# Altium schematic symbol library SCH - MCU - STM32 - ST MICROELECTRONICS STM32F358RCTX LQFP64.SchLib: 1 symbol
Pins are listed as number, name and electrical type; pins without a type are passive.

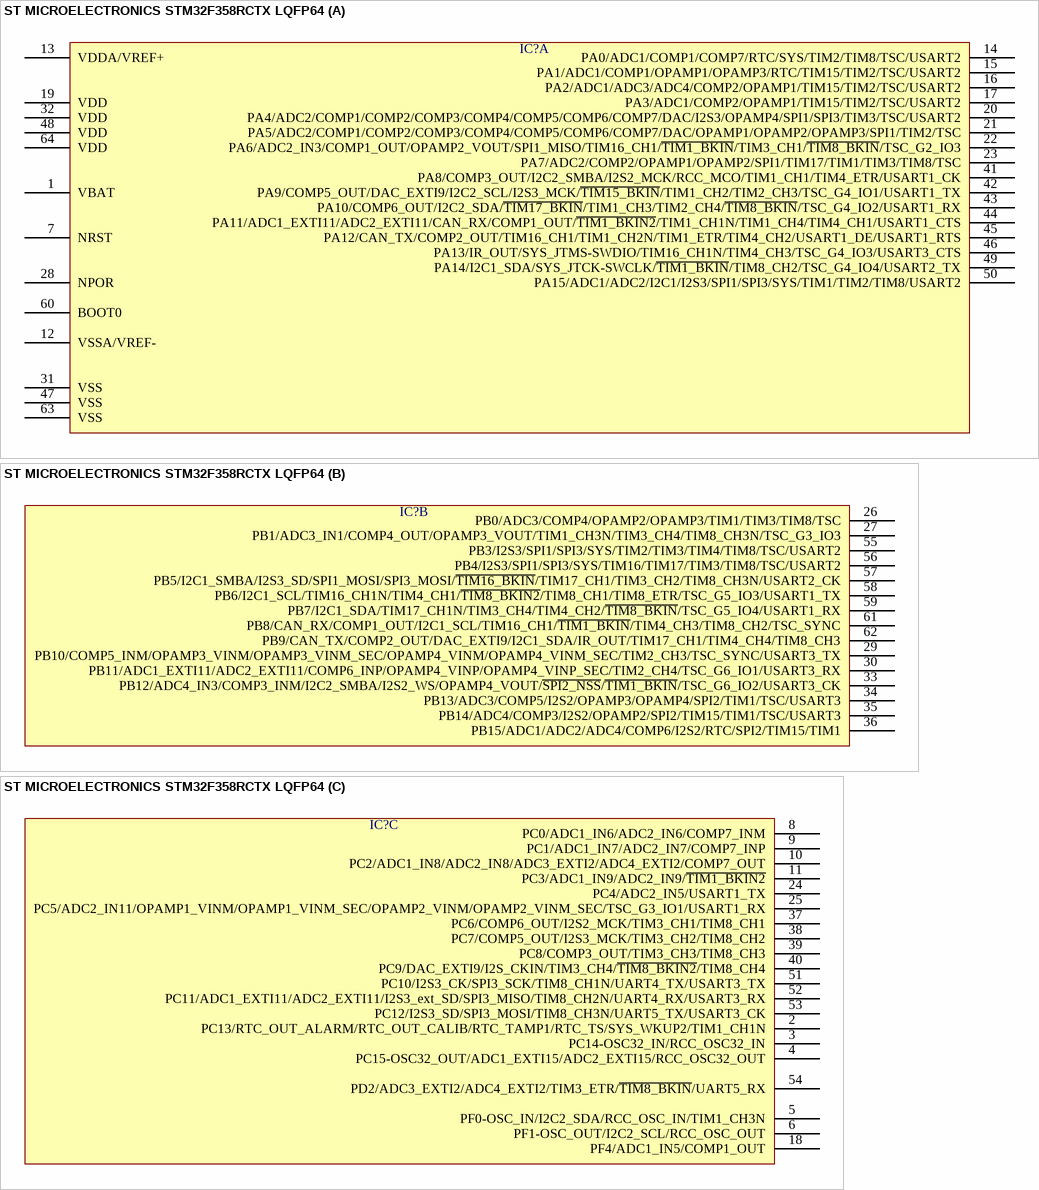
[diagram p0: symbol ST MICROELECTRONICS STM32F358RCTX LQFP64]

## ST MICROELECTRONICS STM32F358RCTX LQFP64
designator IC?  (value not drawn)
part A pins: 1 VBAT, 7 NRST, 12 VSSA/VREF-, 13 VDDA/VREF+, 14 PA0/ADC1/COMP1/COMP7/RTC/SYS/TIM2/TIM8/TSC/USART2, 15 PA1/ADC1/COMP1/OPAMP1/OPAMP3/RTC/TIM15/TIM2/TSC/USART2, 16 PA2/ADC1/ADC3/ADC4/COMP2/OPAMP1/TIM15/TIM2/TSC/USART2, 17 PA3/ADC1/COMP2/OPAMP1/TIM15/TIM2/TSC/USART2, 19 VDD, 20 PA4/ADC2/COMP1/COMP2/COMP3/COMP4/COMP5/COMP6/COMP7/DAC/I2S3/OPAMP4/SPI1/SPI3/TIM3/TSC/USART2, 21 PA5/ADC2/COMP1/COMP2/COMP3/COMP4/COMP5/COMP6/COMP7/DAC/OPAMP1/OPAMP2/OPAMP3/SPI1/TIM2/TSC, 22 PA6/ADC2_IN3/COMP1_OUT/OPAMP2_VOUT/SPI1_MISO/TIM16_CH1/~{TIM1_BKIN}/TIM3_CH1/~{TIM8_BKIN}/TSC_G2_IO3, 23 PA7/ADC2/COMP2/OPAMP1/OPAMP2/SPI1/TIM17/TIM1/TIM3/TIM8/TSC, 28 NPOR, 31 VSS, 32 VDD, 41 PA8/COMP3_OUT/I2C2_SMBA/I2S2_MCK/RCC_MCO/TIM1_CH1/TIM4_ETR/USART1_CK, 42 PA9/COMP5_OUT/DAC_EXTI9/I2C2_SCL/I2S3_MCK/~{TIM15_BKIN}/TIM1_CH2/TIM2_CH3/TSC_G4_IO1/USART1_TX, 43 PA10/COMP6_OUT/I2C2_SDA/~{TIM17_BKIN}/TIM1_CH3/TIM2_CH4/~{TIM8_BKIN}/TSC_G4_IO2/USART1_RX, 44 PA11/ADC1_EXTI11/ADC2_EXTI11/CAN_RX/COMP1_OUT/~{TIM1_BKIN2}/TIM1_CH1N/TIM1_CH4/TIM4_CH1/USART1_CTS, 45 PA12/CAN_TX/COMP2_OUT/TIM16_CH1/TIM1_CH2N/TIM1_ETR/TIM4_CH2/USART1_DE/USART1_RTS, 46 PA13/IR_OUT/SYS_JTMS-SWDIO/TIM16_CH1N/TIM4_CH3/TSC_G4_IO3/USART3_CTS, 47 VSS, 48 VDD, 49 PA14/I2C1_SDA/SYS_JTCK-SWCLK/~{TIM1_BKIN}/TIM8_CH2/TSC_G4_IO4/USART2_TX, 50 PA15/ADC1/ADC2/I2C1/I2S3/SPI1/SPI3/SYS/TIM1/TIM2/TIM8/USART2, 60 BOOT0, 63 VSS, 64 VDD
part B pins: 26 PB0/ADC3/COMP4/OPAMP2/OPAMP3/TIM1/TIM3/TIM8/TSC, 27 PB1/ADC3_IN1/COMP4_OUT/OPAMP3_VOUT/TIM1_CH3N/TIM3_CH4/TIM8_CH3N/TSC_G3_IO3, 29 PB10/COMP5_INM/OPAMP3_VINM/OPAMP3_VINM_SEC/OPAMP4_VINM/OPAMP4_VINM_SEC/TIM2_CH3/TSC_SYNC/USART3_TX, 30 PB11/ADC1_EXTI11/ADC2_EXTI11/COMP6_INP/OPAMP4_VINP/OPAMP4_VINP_SEC/TIM2_CH4/TSC_G6_IO1/USART3_RX, 33 PB12/ADC4_IN3/COMP3_INM/I2C2_SMBA/I2S2_WS/OPAMP4_VOUT/~{SPI2_NSS}/~{TIM1_BKIN}/TSC_G6_IO2/USART3_CK, 34 PB13/ADC3/COMP5/I2S2/OPAMP3/OPAMP4/SPI2/TIM1/TSC/USART3, 35 PB14/ADC4/COMP3/I2S2/OPAMP2/SPI2/TIM15/TIM1/TSC/USART3, 36 PB15/ADC1/ADC2/ADC4/COMP6/I2S2/RTC/SPI2/TIM15/TIM1, 55 PB3/I2S3/SPI1/SPI3/SYS/TIM2/TIM3/TIM4/TIM8/TSC/USART2, 56 PB4/I2S3/SPI1/SPI3/SYS/TIM16/TIM17/TIM3/TIM8/TSC/USART2, 57 PB5/I2C1_SMBA/I2S3_SD/SPI1_MOSI/SPI3_MOSI/~{TIM16_BKIN}/TIM17_CH1/TIM3_CH2/TIM8_CH3N/USART2_CK, 58 PB6/I2C1_SCL/TIM16_CH1N/TIM4_CH1/~{TIM8_BKIN2}/TIM8_CH1/TIM8_ETR/TSC_G5_IO3/USART1_TX, 59 PB7/I2C1_SDA/TIM17_CH1N/TIM3_CH4/TIM4_CH2/~{TIM8_BKIN}/TSC_G5_IO4/USART1_RX, 61 PB8/CAN_RX/COMP1_OUT/I2C1_SCL/TIM16_CH1/~{TIM1_BKIN}/TIM4_CH3/TIM8_CH2/TSC_SYNC, 62 PB9/CAN_TX/COMP2_OUT/DAC_EXTI9/I2C1_SDA/IR_OUT/TIM17_CH1/TIM4_CH4/TIM8_CH3
part C pins: 2 PC13/RTC_OUT_ALARM/RTC_OUT_CALIB/RTC_TAMP1/RTC_TS/SYS_WKUP2/TIM1_CH1N, 3 PC14-OSC32_IN/RCC_OSC32_IN, 4 PC15-OSC32_OUT/ADC1_EXTI15/ADC2_EXTI15/RCC_OSC32_OUT, 5 PF0-OSC_IN/I2C2_SDA/RCC_OSC_IN/TIM1_CH3N, 6 PF1-OSC_OUT/I2C2_SCL/RCC_OSC_OUT, 8 PC0/ADC1_IN6/ADC2_IN6/COMP7_INM, 9 PC1/ADC1_IN7/ADC2_IN7/COMP7_INP, 10 PC2/ADC1_IN8/ADC2_IN8/ADC3_EXTI2/ADC4_EXTI2/COMP7_OUT, 11 PC3/ADC1_IN9/ADC2_IN9/~{TIM1_BKIN2}, 18 PF4/ADC1_IN5/COMP1_OUT, 24 PC4/ADC2_IN5/USART1_TX, 25 PC5/ADC2_IN11/OPAMP1_VINM/OPAMP1_VINM_SEC/OPAMP2_VINM/OPAMP2_VINM_SEC/TSC_G3_IO1/USART1_RX, 37 PC6/COMP6_OUT/I2S2_MCK/TIM3_CH1/TIM8_CH1, 38 PC7/COMP5_OUT/I2S3_MCK/TIM3_CH2/TIM8_CH2, 39 PC8/COMP3_OUT/TIM3_CH3/TIM8_CH3, 40 PC9/DAC_EXTI9/I2S_CKIN/TIM3_CH4/~{TIM8_BKIN2}/TIM8_CH4, 51 PC10/I2S3_CK/SPI3_SCK/TIM8_CH1N/UART4_TX/USART3_TX, 52 PC11/ADC1_EXTI11/ADC2_EXTI11/I2S3_ext_SD/SPI3_MISO/TIM8_CH2N/UART4_RX/USART3_RX, 53 PC12/I2S3_SD/SPI3_MOSI/TIM8_CH3N/UART5_TX/USART3_CK, 54 PD2/ADC3_EXTI2/ADC4_EXTI2/TIM3_ETR/~{TIM8_BKIN}/UART5_RX